# Altium footprint library 3Delight.PcbLib: 131 footprints (part 7 of 9)
Each footprint in its own frame and in the unit in brackets; x right, y up, seen from the top. Pads: shape width x height; smd on the part's side, far side on the other; paste and mask are expansions set on the pad; w line width, h text height; cw(c..) or ccw(c..) is an arc to the next point about the centre after c.
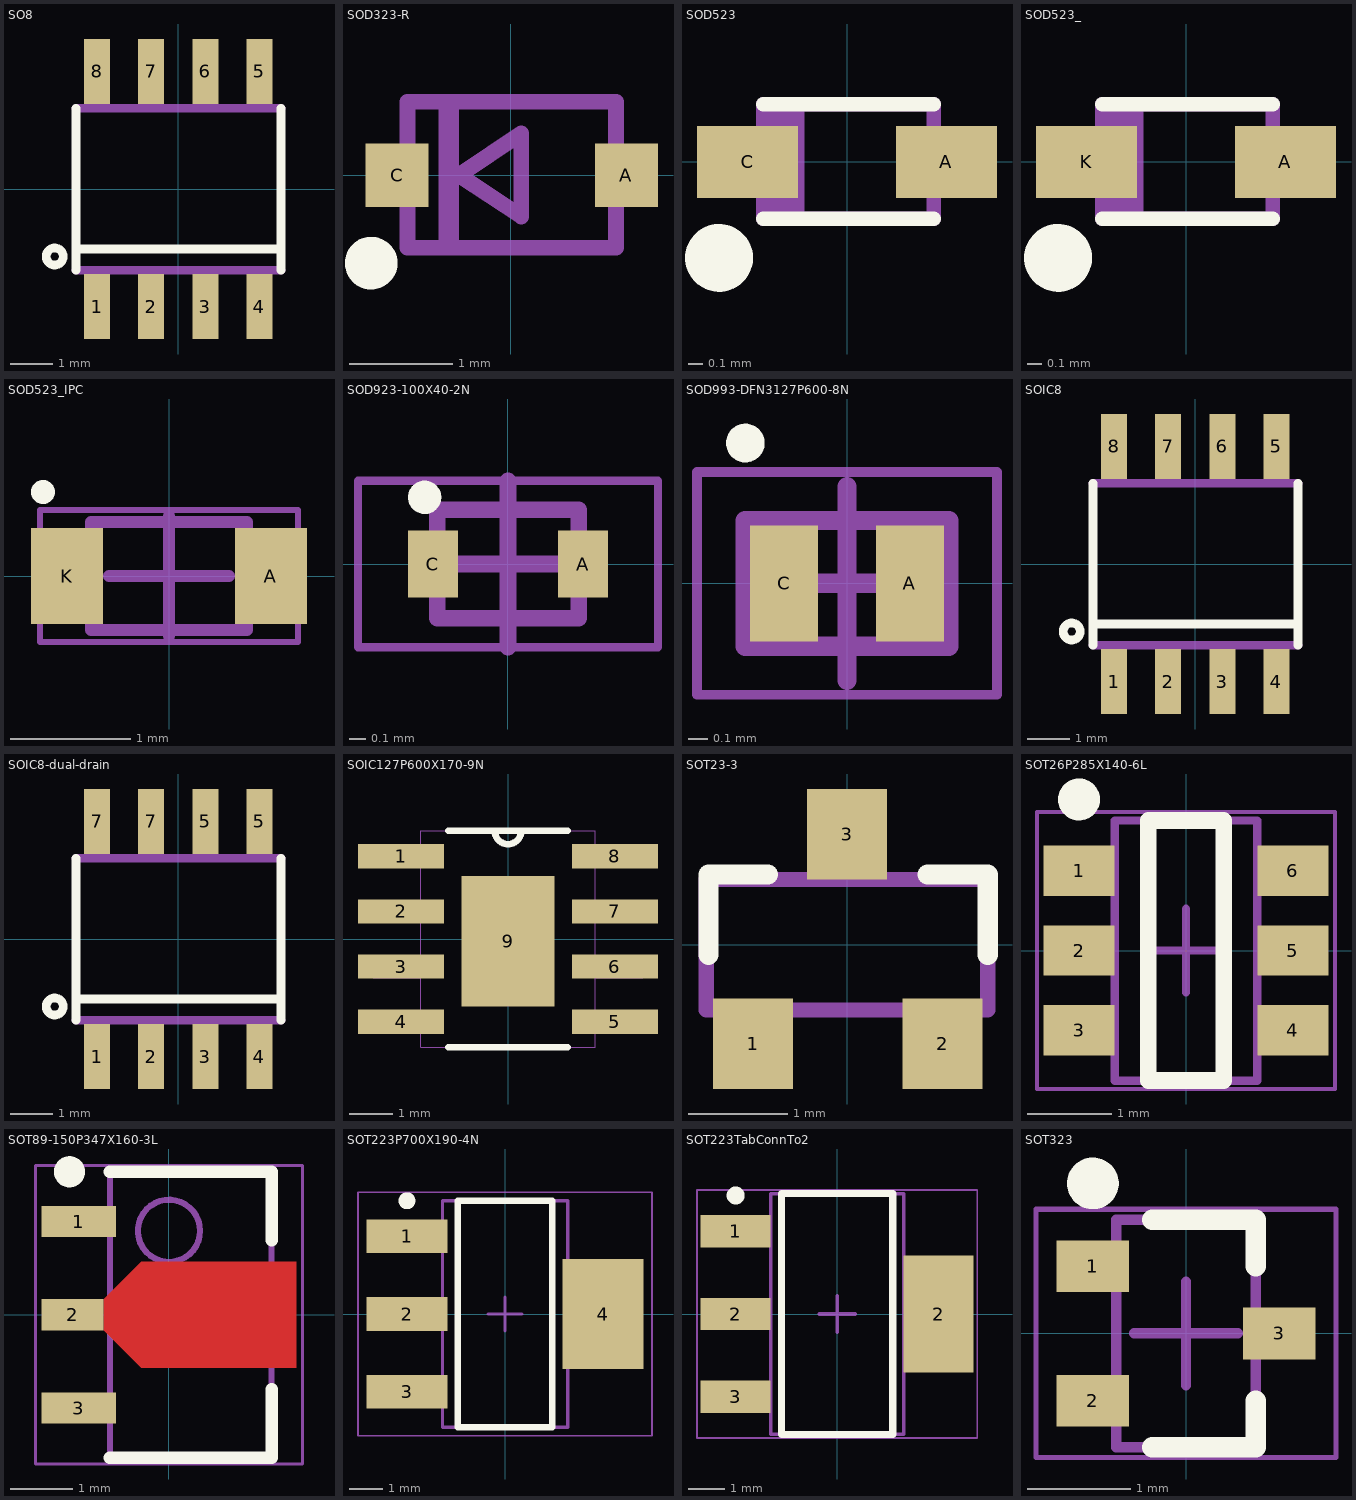
[diagram p6: the footprints below, top view; thin cyan lines are the x and y axes]

## SO8 [mil] "plastic small outline package; 8 leads; body width 3.9 mm"
pads (8):
  rect 24x60 smd: 1(-75,-108.27) 2(-25,-108.27) 3(25,-108.27) 4(75,-108.27) 5(75,109) 6(25,109) 7(-25,109) 8(-75,109)
Top Overlay:
  circle w8: c-114.17,-62.01 r7.87
  lines w8: -94.49,-74.8 -94.49,-55.12 ; -94.49,75 -94.49,-55.12 ; 95,-74.8 95,-55.12 ; 95,75 95,-55.12 ; -94.49,-55.12 95,-55.12
Top Document:
  rectangle: -84.65,79 -65.35,123
  rectangle: -34.65,79 -15.35,123
  rectangle: 16,79 35,123
  rectangle: 66,79 85,123
  rectangle: 66,-122.05 85,-78.74
  rectangle: 16,-122.05 35,-78.74
  rectangle: -34.65,-122.05 -15.35,-78.74
  rectangle: -84.65,-122.05 -65.35,-78.74
  lines w8: -94.49,-74.8 95,-74.8 ; -94.49,75 95,75
3D body: height 58.27, standoff 0, extent -98.49,-78.8 99,79
3D body: height 31.5, standoff 0, extent -85,-130 -65,-75
3D body: height 31.5, standoff 0, extent -35,-130 -15,-75
3D body: height 31.5, standoff 0, extent 15,-130 35,-75
3D body: height 31.5, standoff 0, extent 65,-130 85,-75
3D body: height 31.5, standoff 0, extent -85,75 -65,130
3D body: height 31.5, standoff 0, extent -35,75 -15,130
3D body: height 31.5, standoff 0, extent 15,75 35,130
3D body: height 31.5, standoff 0, extent 65,75 85,130

## SOD323-R [mil]
pads (2):
  rect 24x24 smd: A(44,0) C(-43.31,0)
Top Overlay:
  circle w10: c-53.15,-33.46 r5.02
Top Document:
  rectangle: -27.56,-27.56 -19.69,28
  lines w6: -39.37,-27.56 -39.37,28 40,28 40,-27.56 -39.37,-27.56 ; -19.69,0 4,-15.75 4,16 -19.69,0
3D body: height 15.75, standoff 0, extent 35,-5 50,5
3D body: height 15.75, standoff 0, extent -50,-5 -35,5
3D body: height 27.56, standoff 0, extent -42.37,-30.56 43,31

## SOD523 [mil]
pads (2):
  rect 28x20 smd: A(27.56,0) C(-27.56,0)
Top Overlay:
  circle w10: c-35.43,-26.57 r4.4
  lines w4: -23.23,-15.75 24,-15.75 ; -23.23,16 24,16
Top Document:
  rectangle: -29.53,-6.69 -21.26,7
  rectangle: 22,-6.69 30,7
  rectangle: -23.23,-15.75 -11.81,16
  lines w4: -23.23,-15.75 24,-15.75 24,16 -23.23,16 -23.23,-15.75
3D body: height 27.56, standoff 0, extent -23.21,-15.73 23.98,15.98
3D body: height 11.81, standoff 0, extent -29.53,-4.92 29.53,4.92

## SOD523_ [mil]
pads (2):
  rect 28x20 smd: A(27.56,0) K(-27.56,0)
Top Overlay:
  circle w10: c-35.43,-26.57 r4.4
  lines w4: -23.23,-15.75 24,-15.75 ; -23.23,16 24,16
Top Document:
  rectangle: -23.23,-15.75 -11.81,16
  rectangle: 22,-6.69 30,7
  rectangle: -29.53,-6.69 -21.26,7
  lines w4: -23.23,-15.75 -23.23,16 24,16 24,-15.75 -23.23,-15.75
3D body: height 11.81, standoff 0, extent -29.53,-4.92 29.53,4.92
3D body: height 27.56, standoff 0, extent -23.21,-15.73 23.98,15.98

## SOD523_IPC [mm]
height 0.65
pads (2):
  rect 0.6x0.8 smd: A(0.85,0) K(-0.85,0)
Top Overlay:
  circle w0.1: c-1.05,0.7 r0.05
Mechanical 13:
  lines w0.1: -0.65,-0.45 0.65,-0.45 0.65,0.45 -0.65,0.45 -0.65,-0.45
Top Courtyard:
  lines w0.05: -1.075,-0.55 1.075,-0.55 1.075,0.55 -1.075,0.55 -1.075,-0.55
  lines w0.1: -0.5,0 0.5,0 ; 0,-0.5 0,0.5
3D body: height 0.65, standoff 0, extent -0.65,-0.45 0.65,0.45

## SOD923-100X40-2N [mm] "SODFL, 2-Leads, Body 0.60x1.00mm, IPC Medium Density"
height 0.4
pads (2):
  rect 0.3x0.4 smd paste-0.025: A(0.45,0) C(-0.45,0)
Top Overlay:
  circle w0.1: c-0.5,0.4 r0.05
Mechanical 13:
  lines w0.1: -0.425,-0.325 -0.425,0.325 0.425,0.325 0.425,-0.325 -0.425,-0.325
Top Courtyard:
  lines w0.05: -0.9,-0.5 -0.9,0.5 0.9,0.5 0.9,-0.5 -0.9,-0.5
  lines w0.1: -0.5,0 0.5,0 ; 0,-0.5 0,0.5
3D body: height 0.4, standoff 0, extent -0.425,-0.325 0.425,0.325

## SOD993-DFN3127P600-8N [mm] "DSN1006-2 (SOD993)"
height 0.3
pads (2):
  rect 0.35x0.6 smd paste-0.05 mask+0.05: A(0.325,0) C(-0.325,0)
Top Overlay:
  circle w0.1: c-0.525,0.725 r0.05
Mechanical 13:
  lines w0.1: -0.525,-0.325 -0.525,0.325 0.525,0.325 0.525,-0.325 -0.525,-0.325
Top Courtyard:
  lines w0.05: -0.775,-0.575 -0.775,0.575 0.775,0.575 0.775,-0.575 -0.775,-0.575
  lines w0.1: -0.5,0 0.5,0 ; 0,-0.5 0,0.5
3D body: height 0.3, standoff 0, extent -0.525,-0.325 0.525,0.325

## SOIC8 [mil]
pads (8):
  rect 24x60 smd: 1(-75,-108.27) 2(-25,-108.27) 3(25,-108.27) 4(75,-108.27) 5(75,109) 6(25,109) 7(-25,109) 8(-75,109)
Top Overlay:
  circle w8: c-114.17,-62.01 r7.87
  lines w8: -94.49,-74.8 -94.49,-55.12 ; -94.49,75 -94.49,-55.12 ; 95,-74.8 95,-55.12 ; 95,75 95,-55.12 ; -94.49,-55.12 95,-55.12
Top Document:
  rectangle: -84.65,79 -65.35,123
  rectangle: -34.65,79 -15.35,123
  rectangle: 16,79 35,123
  rectangle: 66,79 85,123
  rectangle: 66,-122.05 85,-78.74
  rectangle: 16,-122.05 35,-78.74
  rectangle: -34.65,-122.05 -15.35,-78.74
  rectangle: -84.65,-122.05 -65.35,-78.74
  lines w8: -94.49,-74.8 95,-74.8 ; -94.49,75 95,75
3D body: height 58.27, standoff 0, extent -98.49,-78.8 99,79
3D body: height 31.5, standoff 0, extent -85,-130 -65,-75
3D body: height 31.5, standoff 0, extent -35,-130 -15,-75
3D body: height 31.5, standoff 0, extent 15,-130 35,-75
3D body: height 31.5, standoff 0, extent 65,-130 85,-75
3D body: height 31.5, standoff 0, extent -85,75 -65,130
3D body: height 31.5, standoff 0, extent -35,75 -15,130
3D body: height 31.5, standoff 0, extent 15,75 35,130
3D body: height 31.5, standoff 0, extent 65,75 85,130

## SOIC8-dual-drain [mil]
pads (8):
  rect 24x60 smd: 1(-75,-108.27) 2(-25,-108.27) 3(25,-108.27) 4(75,-108.27) 5(25,109) 5(75,109) 7(-75,109) 7(-25,109)
Top Overlay:
  circle w8: c-114.17,-62.01 r7.87
  lines w8: -94.49,-74.8 -94.49,-55.12 ; -94.49,75 -94.49,-55.12 ; 95,-74.8 95,-55.12 ; 95,75 95,-55.12 ; -94.49,-55.12 95,-55.12
Top Document:
  rectangle: -84.65,79 -65.35,123
  rectangle: -34.65,79 -15.35,123
  rectangle: 16,79 35,123
  rectangle: 66,79 85,123
  rectangle: 66,-122.05 85,-78.74
  rectangle: 16,-122.05 35,-78.74
  rectangle: -34.65,-122.05 -15.35,-78.74
  rectangle: -84.65,-122.05 -65.35,-78.74
  lines w8: -94.49,-74.8 95,-74.8 ; -94.49,75 95,75
3D body: height 58.27, standoff 0, extent -98.49,-78.8 99,79
3D body: height 31.5, standoff 0, extent -85,-130 -65,-75
3D body: height 31.5, standoff 0, extent -35,-130 -15,-75
3D body: height 31.5, standoff 0, extent 15,-130 35,-75
3D body: height 31.5, standoff 0, extent 65,-130 85,-75
3D body: height 31.5, standoff 0, extent -85,75 -65,130
3D body: height 31.5, standoff 0, extent -35,75 -15,130
3D body: height 31.5, standoff 0, extent 15,75 35,130
3D body: height 31.5, standoff 0, extent 65,75 85,130

## SOIC127P600X170-9N [mil]
pads (9):
  rect 78x22 smd: 1(-97,75) 2(-97,25) 3(-97,-25) 4(-97,-75) 5(97,-75) 6(97,-25) 7(97,25) 8(97,75)
  rect 84x118 smd: 9(0,-2)
Top Overlay:
  lines w6: -54,-98 54,-98 ; -54,98 54,98 ; -12,98 ccw(c0,98) 12,98
Top Paste:
  region: 40,-58 -40,-58 -40,-43 -25,-43.29 -19.15,-42.13 -14.19,-38.81 -10.87,-33.85 -9.71,-28 -10.2,-28 -9.42,-24.1 -7.21,-20.79 -3.9,-18.58 0,-17.8 3.9,-18.58 7.21,-20.79 9.42,-24.1 10.2,-28 9.71,-28 10.87,-33.85 14.19,-38.81 19.15,-42.13 25,-43.29 25,-43 40,-43
  region: -40,55 40,55 40,40 25,40.29 19.15,39.13 14.19,35.81 10.87,30.85 9.71,25 10.2,25 9.42,21.1 7.21,17.79 3.9,15.58 0,14.8 -3.9,15.58 -7.21,17.79 -9.42,21.1 -10.2,25 -9.71,25 -10.87,30.85 -14.19,35.81 -19.15,39.13 -25,40.29 -25,40 -40,40
  region: 40,-13 34,-13 31,-10 17,-10 14,-7 14,7 17,10 31,10 35,14 40,14
  region: -40,13 -34,13 -31,10 -17,10 -14,7 -14,-7 -17,-10 -31,-10 -35,-14 -40,-14
Top Solder:
  drawing of 4 lines, arcs and shapes, not listed
Top Document:
  lines w0: -12,98 ccw(c0,98) 12,98 ; -122,-85 -79,-85 -79,-65 -122,-65 -122,-85 ; -122,-35 -79,-35 -79,-15 -122,-15 -122,-35 ; -122,15 -79,15 -79,35 -122,35 -122,15 ; -122,65 -79,65 -79,85 -122,85 -122,65 ; -79,-98 -79,98 79,98 79,-98 -79,-98 ; 79,-85 122,-85 122,-65 79,-65 79,-85 ; 79,-35 122,-35 122,-15 79,-15 79,-35 ; 79,15 122,15 122,35 79,35 79,15 ; 79,65 122,65 122,85 79,85 79,65
3D body: height 23.62, standoff 0, extent 79.02,65.02 121.98,84.98
3D body: height 23.62, standoff 0, extent 79.02,15.02 121.98,34.98
3D body: height 23.62, standoff 0, extent 79.02,-34.98 121.98,-15.02
3D body: height 23.62, standoff 0, extent 79.02,-84.98 121.98,-65.02
3D body: height 23.62, standoff 0, extent -121.98,65.02 -79.02,84.98
3D body: height 23.62, standoff 0, extent -121.98,15.02 -79.02,34.98
3D body: height 66.14, standoff 0, extent -78.98,-97.98 78.98,97.98
3D body: height 23.62, standoff 0, extent -121.98,-34.98 -79.02,-15.02
3D body: height 23.62, standoff 0, extent -121.98,-84.98 -79.02,-65.02

## SOT23-3 [mil]
pads (3):
  rect 32x36 smd: 1(-37.4,-39.37) 2(38,-39.37) 3(0,44)
Top Overlay:
  lines w8: -55.12,-3.94 -55.12,28 -31.5,28 ; 32,28 56,28 56,-3.94
Top Document:
  lines w6: -56,-26 56,-26 56,26 -56,26 -56,-26
3D body: height 15.75, standoff 0, extent 27.5,-45 52.5,-25
3D body: height 15.75, standoff 0, extent -47.5,-45 -22.5,-25
3D body: height 15.75, standoff 0, extent -10,27.5 10,52.5
3D body: height 44.09, standoff 0, extent -59,-29 59,29

## SOT26P285X140-6L [mm] "SOT26, 6-Leads, Body 3.00x2.85mm, Pitch 0.95mm, IPC High Density"
height 1.4
pads (6):
  rect 0.85x0.6 smd: 1(-1.275,0.95) 2(-1.275,0) 3(-1.275,-0.95) 4(1.275,-0.95) 5(1.275,0) 6(1.275,0.95)
Top Overlay:
  circle w0.25: c-1.275,1.8 r0.125
  lines w0.2: -0.45,-1.55 -0.45,1.55 0.45,1.55 0.45,-1.55 -0.45,-1.55
Mechanical 13:
  lines w0.1: -0.85,-1.55 0.85,-1.55 0.85,1.55 -0.85,1.55 -0.85,-1.55
Top Courtyard:
  lines w0.05: -1.775,-1.65 1.775,-1.65 1.775,1.65 -1.775,1.65 -1.775,-1.65
  lines w0.1: -0.5,0 0.5,0 ; 0,-0.5 0,0.5
3D body: height 1.4, standoff 0.1, extent -0.85,-1.55 0.85,1.55

## SOT89-150P347X160-3L [mm] "SOT89, 3-Leads, Body 4.50x2.48mm, Pitch 1.50mm, Lead Span 3.5mm, IPC High Density"
height 1.6
pads (3):
  rect 1.2x0.5 smd: 1(-1.45,1.5) 3(-1.45,-1.5)
  rect 1x0.5 smd: 2(-1.55,0)
Top Layer:
  region: -1.05,0.25 -0.45,0.85 2.05,0.85 2.05,-0.85 -0.45,-0.85 -1.05,-0.25
Top Overlay:
  circle w0.25: c-1.6,2.3 r0.125
  lines w0.2: -0.95,-2.3 1.65,-2.3 1.65,-1.2 ; -0.95,2.3 1.65,2.3 1.65,1.2
Mechanical 13:
  circle w0.1: c0,1.35 r0.5
  lines w0.1: -0.95,-2.3 1.65,-2.3 1.65,2.3 -0.95,2.3 -0.95,-2.3
Top Courtyard:
  lines w0.05: -2.15,-2.4 2.15,-2.4 2.15,2.4 -2.15,2.4 -2.15,-2.4
  lines w0.1: -0.15,0 0.85,0 ; 0.35,-0.5 0.35,0.5
3D body: height 1.6, standoff 0, extent -0.95,-2.3 1.65,2.3

## SOT223P700X190-4N [mm] "SOT223, 4-Leads, Body 6.50x7.00mm (avg), Pitch 2.30mm, IPC Medium Density"
height 1.9
pads (4):
  rect 2.4x1 smd: 1(-2.9,2.3) 2(-2.9,0) 3(-2.9,-2.3)
  rect 2.4x3.25 smd: 4(2.9,0)
Top Overlay:
  circle w0.25: c-2.9,3.35 r0.125
  lines w0.2: -1.4,-3.35 1.4,-3.35 1.4,3.35 -1.4,3.35 -1.4,-3.35
Mechanical 13:
  lines w0.1: -1.85,-3.35 1.85,-3.35 1.85,3.35 -1.85,3.35 -1.85,-3.35
Top Courtyard:
  lines w0.05: -4.35,-3.6 4.35,-3.6 4.35,3.6 -4.35,3.6 -4.35,-3.6
  lines w0.1: -0.5,0 0.5,0 ; 0,-0.5 0,0.5
3D body: height 1.9, standoff 0.1, extent -1.85,-3.35 1.85,3.35

## SOT223TabConnTo2 [mm] "Tab tied to pin 2. SOT223, 4-Leads, Body 6.50x7.00mm (avg), Pitch 2.30mm, IPC High Density"
height 1.8
pads (4):
  rect 1.95x0.9 smd: 1(-2.825,2.3) 2(-2.825,0) 3(-2.825,-2.3)
  rect 1.95x3.25 smd: 2(2.825,0)
Top Overlay:
  circle w0.25: c-2.825,3.3 r0.125
  lines w0.2: -1.55,-3.35 1.55,-3.35 1.55,3.35 -1.55,3.35 -1.55,-3.35
Mechanical 13:
  lines w0.1: -1.85,-3.35 1.85,-3.35 1.85,3.35 -1.85,3.35 -1.85,-3.35
Top Courtyard:
  lines w0.05: -3.9,-3.45 3.9,-3.45 3.9,3.45 -3.9,3.45 -3.9,-3.45
  lines w0.1: -0.5,0 0.5,0 ; 0,-0.5 0,0.5
3D body: height 1.8, standoff 0.01, extent -1.85,-3.35 1.85,3.35

## SOT323 [mm]
height 1.1
pads (3):
  rect 0.7x0.5 smd: 1(-0.9,0.65) 2(-0.9,-0.65) 3(0.9,0)
Top Overlay:
  circle w0.25: c-0.9,1.45 r0.125
  lines w0.2: -0.325,-1.1 0.675,-1.1 0.675,-0.65 ; -0.325,1.1 0.675,1.1 0.675,0.65
Mechanical 13:
  lines w0.1: -0.675,-1.1 -0.675,1.1 0.675,1.1 0.675,-1.1 -0.675,-1.1
Top Courtyard:
  lines w0.05: -1.45,-1.2 -1.45,1.2 1.45,1.2 1.45,-1.2 -1.45,-1.2
  lines w0.1: -0.5,0 0.5,0 ; 0,-0.5 0,0.5
3D body "SOT323.step": height 1.1, standoff 0, extent -1.3,-1.1 1.3,1.1